# EAGLE library part ICM-20602 (library ICM-20602)
Accelerometer and Gyroscope Digital 16-Pin LGA Check prices <https://pricing.snapeda.com/parts/IAM-20680/TDK%20InvenSense/view-part?ref=eda> Check prices <https://pricing.snapeda.com/parts/ICM-20602/TDK%20InvenSense/view-part?ref=eda>
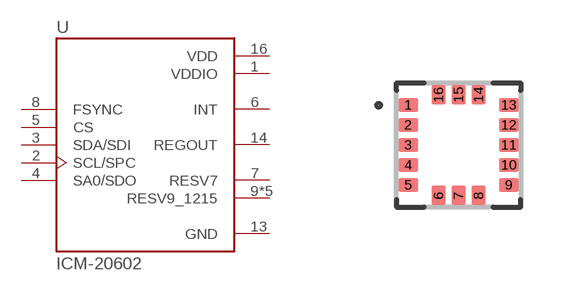
[diagram p0: symbol with the pads of PQFN50P300X300X80-16N; footprint PQFN50P300X300X80-16N]

Designator prefix U

## ICM-20602 (Availability: Good; Description: Accelerometer, Gyroscope, Temperature, 6 Axis Sensor I²C, SPI Output; MF: TDK InvenSense; MP: ICM-20602; Package: PQFN-16 TDK-InvenSense; Price: None; Purchase-URL: https://pricing.snapeda.com/search/part/ICM-20602/?ref=eda)  [PQFN50P300X300X80-16N]
1  VDDIO  pwr
2  SCL/SPC
3  SDA/SDI  in
4  SA0/SDO  out
5  CS  in
6  INT  out
7  RESV7  pas
8  FSYNC  in
9  RESV9_1215  pas
10  RESV9_1215  pas
11  RESV9_1215  pas
12  RESV9_1215  pas
13  GND  pwr
14  REGOUT  pas
15  RESV9_1215  pas
16  VDD  pwr

## Footprint PQFN50P300X300X80-16N (pad centres in mm)
smd 0.49 x 0.35: 1 -1.26,1; 2 -1.26,0.5; 3 -1.26,0; 4 -1.26,-0.5; 5 -1.26,-1; 9 1.26,-1; 10 1.26,-0.5; 11 1.26,0; 12 1.26,0.5; 13 1.26,1
smd 0.35 x 0.49: 6 -0.5,-1.26; 7 0,-1.26; 8 0.5,-1.26; 14 0.5,1.26; 15 0,1.26; 16 -0.5,1.26